# Altium integrated library DiodesIncorporated.IntLib: 1 symbol
Pins are listed as number, name and electrical type; pins without a type are passive.

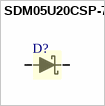
[diagram p0: symbol SDM05U20CSP-7]

## SDM05U20CSP-7
designator D?, comment DIODE SCHOTTKY 20V 500MA WLB1006  (value not drawn)
Diode Schottky 20V 500mA Surface Mount X3-WLB1006-2; MPN: SDM05U20CSP-7; Supplier 1: Digi-Key; Supplier Part Number 1: SDM05U20CSP-7DICT-ND
footprint X3-WLB1006-2
pins: A, K